# EAGLE library part XC2S50/100-TQFP144 (library xilinx)
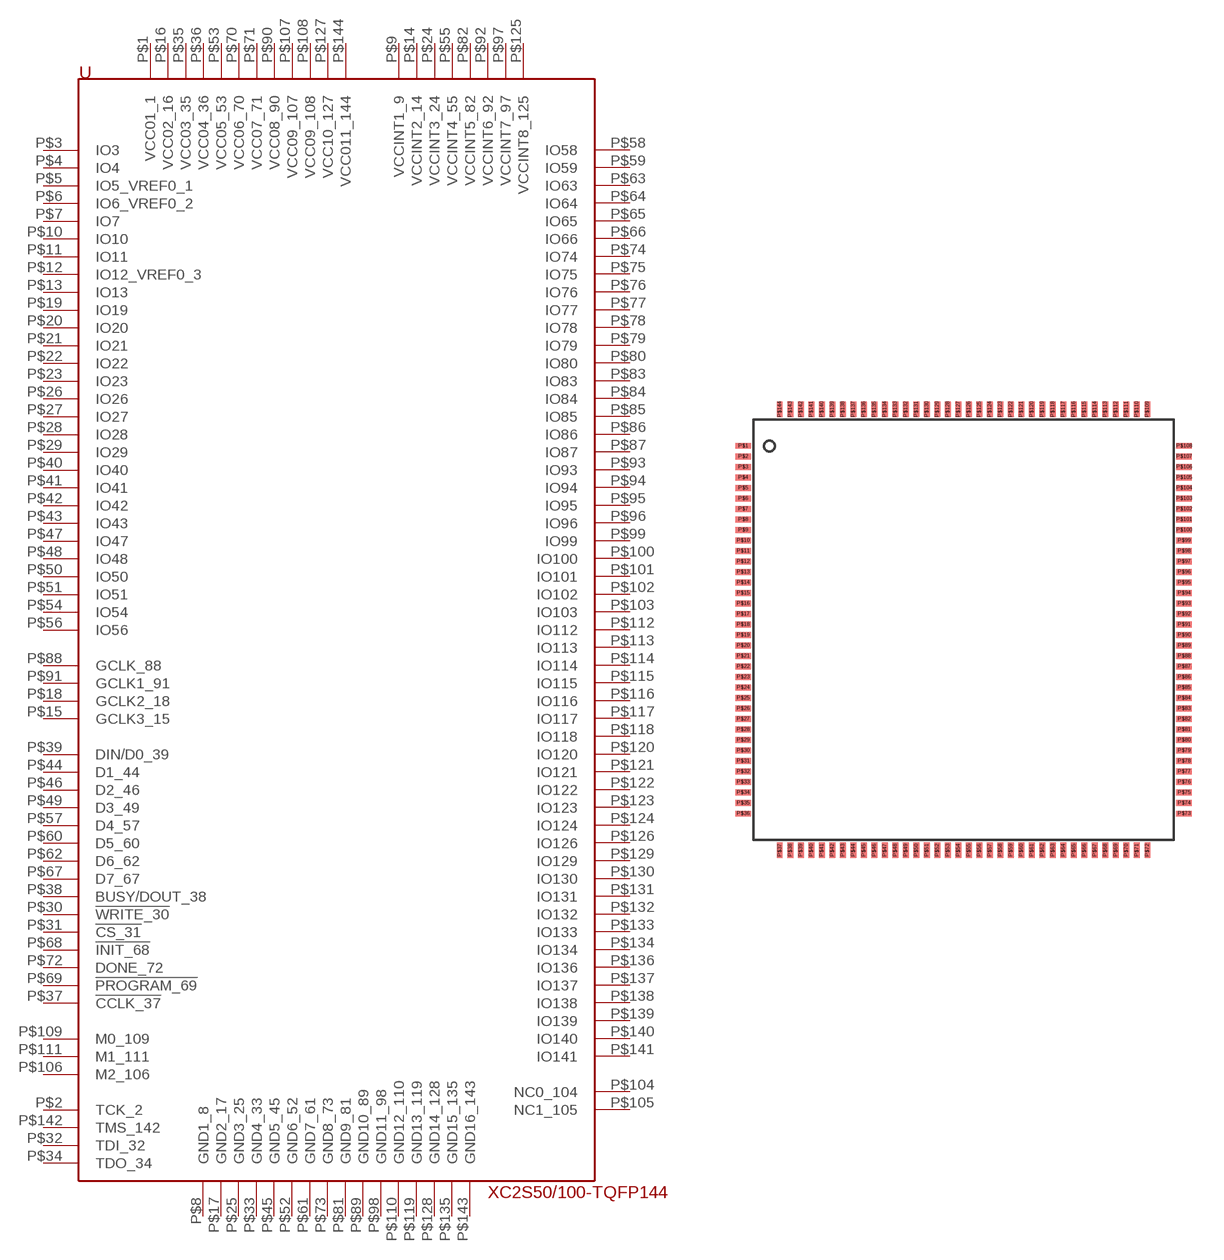
[diagram p0: symbol with the pads of TQFP144; footprint TQFP144]

Designator prefix -

## XC2S50/100-TQFP144  [TQFP144]
P$1  VCC01_1  pwr
P$2  TCK_2
P$3  IO3
P$4  IO4
P$5  IO5_VREF0_1
P$6  IO6_VREF0_2
P$7  IO7
P$8  GND1_8  pwr
P$9  VCCINT1_9  pwr
P$10  IO10
P$11  IO11
P$12  IO12_VREF0_3
P$13  IO13
P$14  VCCINT2_14  pwr
P$15  GCLK3_15
P$16  VCC02_16  pwr
P$17  GND2_17  pwr
P$18  GCLK2_18
P$19  IO19
P$20  IO20
P$21  IO21
P$22  IO22
P$23  IO23
P$24  VCCINT3_24  pwr
P$25  GND3_25  pwr
P$26  IO26
P$27  IO27
P$28  IO28
P$29  IO29
P$30  !WRITE_30
P$31  !CS_31
P$32  TDI_32
P$33  GND4_33  pwr
P$34  TDO_34
P$35  VCC03_35  pwr
P$36  VCC04_36  pwr
P$37  !CCLK_37
P$38  BUSY/DOUT_38
P$39  DIN/D0_39
P$40  IO40
P$41  IO41
P$42  IO42
P$43  IO43
P$44  D1_44
P$45  GND5_45  pwr
P$46  D2_46
P$47  IO47
P$48  IO48
P$49  D3_49
P$50  IO50
P$51  IO51
P$52  GND6_52  pwr
P$53  VCC05_53  pwr
P$54  IO54
P$55  VCCINT4_55  pwr
P$56  IO56
P$57  D4_57
P$58  IO58
P$59  IO59
P$60  D5_60
P$61  GND7_61  pwr
P$62  D6_62
P$63  IO63
P$64  IO64
P$65  IO65
P$66  IO66
P$67  D7_67
P$68  !INIT_68
P$69  !PROGRAM_69
P$70  VCC06_70  pwr
P$71  VCC07_71  pwr
P$72  DONE_72
P$73  GND8_73  pwr
P$74  IO74
P$75  IO75
P$76  IO76
P$77  IO77
P$78  IO78
P$79  IO79
P$80  IO80
P$81  GND9_81  pwr
P$82  VCCINT5_82  pwr
P$83  IO83
P$84  IO84
P$85  IO85
P$86  IO86
P$87  IO87
P$88  GCLK_88
P$89  GND10_89  pwr
P$90  VCC08_90  pwr
P$91  GCLK1_91
P$92  VCCINT6_92  pwr
P$93  IO93
P$94  IO94
P$95  IO95
P$96  IO96
P$97  VCCINT7_97  pwr
P$98  GND11_98  pwr
P$99  IO99
P$100  IO100
P$101  IO101
P$102  IO102
P$103  IO103
P$104  NC0_104
P$105  NC1_105
P$106  M2_106
P$107  VCC09_107  pwr
P$108  VCC09_108  pwr
P$109  M0_109
P$110  GND12_110  pwr
P$111  M1_111
P$112  IO112
P$113  IO113
P$114  IO114
P$115  IO115
P$116  IO116
P$117  IO117
P$118  IO118
P$119  GND13_119  pwr
P$120  IO120
P$121  IO121
P$122  IO122
P$123  IO123
P$124  IO124
P$125  VCCINT8_125  pwr
P$126  IO126
P$127  VCC10_127  pwr
P$128  GND14_128  pwr
P$129  IO129
P$130  IO130
P$131  IO131
P$132  IO132
P$133  IO133
P$134  IO134
P$135  GND15_135  pwr
P$136  IO136
P$137  IO137
P$138  IO138
P$139  IO139
P$140  IO140
P$141  IO141
P$142  TMS_142
P$143  GND16_143  pwr
P$144  VCC011_144  pwr

## Footprint TQFP144 (pad centres in mm)
smd 0.75 x 0.27: P$1 -10.5,8.75; P$2 -10.5,8.25; P$3 -10.5,7.75; P$4 -10.5,7.25; P$5 -10.5,6.75; P$6 -10.5,6.25; P$7 -10.5,5.75; P$8 -10.5,5.25; P$9 -10.5,4.75; P$10 -10.5,4.25; P$11 -10.5,3.75; P$12 -10.5,3.25; P$13 -10.5,2.75; P$14 -10.5,2.25; P$15 -10.5,1.75; P$16 -10.5,1.25; P$17 -10.5,0.75; P$18 -10.5,0.25; P$19 -10.5,-0.25; P$20 -10.5,-0.75; P$21 -10.5,-1.25; P$22 -10.5,-1.75; P$23 -10.5,-2.25; P$24 -10.5,-2.75; P$25 -10.5,-3.25; P$26 -10.5,-3.75; P$27 -10.5,-4.25; P$28 -10.5,-4.75; P$29 -10.5,-5.25; P$30 -10.5,-5.75; P$31 -10.5,-6.25; P$32 -10.5,-6.75; P$33 -10.5,-7.25; P$34 -10.5,-7.75; P$35 -10.5,-8.25; P$36 -10.5,-8.75; P$73 10.5,-8.75; P$74 10.5,-8.25; P$75 10.5,-7.75; P$76 10.5,-7.25; P$77 10.5,-6.75; P$78 10.5,-6.25; P$79 10.5,-5.75; P$80 10.5,-5.25; P$81 10.5,-4.75; P$82 10.5,-4.25; P$83 10.5,-3.75; P$84 10.5,-3.25; P$85 10.5,-2.75; P$86 10.5,-2.25; P$87 10.5,-1.75; P$88 10.5,-1.25; P$89 10.5,-0.75; P$90 10.5,-0.25; P$91 10.5,0.25; P$92 10.5,0.75; P$93 10.5,1.25; P$94 10.5,1.75; P$95 10.5,2.25; P$96 10.5,2.75; P$97 10.5,3.25; P$98 10.5,3.75; P$99 10.5,4.25; P$100 10.5,4.75; P$101 10.5,5.25; P$102 10.5,5.75; P$103 10.5,6.25; P$104 10.5,6.75; P$105 10.5,7.25; P$106 10.5,7.75; P$107 10.5,8.25; P$108 10.5,8.75
smd 0.27 x 0.75: P$37 -8.75,-10.5; P$38 -8.25,-10.5; P$39 -7.75,-10.5; P$40 -7.25,-10.5; P$41 -6.75,-10.5; P$42 -6.25,-10.5; P$43 -5.75,-10.5; P$44 -5.25,-10.5; P$45 -4.75,-10.5; P$46 -4.25,-10.5; P$47 -3.75,-10.5; P$48 -3.25,-10.5; P$49 -2.75,-10.5; P$50 -2.25,-10.5; P$51 -1.75,-10.5; P$52 -1.25,-10.5; P$53 -0.75,-10.5; P$54 -0.25,-10.5; P$55 0.25,-10.5; P$56 0.75,-10.5; P$57 1.25,-10.5; P$58 1.75,-10.5; P$59 2.25,-10.5; P$60 2.75,-10.5; P$61 3.25,-10.5; P$62 3.75,-10.5; P$63 4.25,-10.5; P$64 4.75,-10.5; P$65 5.25,-10.5; P$66 5.75,-10.5; P$67 6.25,-10.5; P$68 6.75,-10.5; P$69 7.25,-10.5; P$70 7.75,-10.5; P$71 8.25,-10.5; P$72 8.75,-10.5; P$109 8.75,10.5; P$110 8.25,10.5; P$111 7.75,10.5; P$112 7.25,10.5; P$113 6.75,10.5; P$114 6.25,10.5; P$115 5.75,10.5; P$116 5.25,10.5; P$117 4.75,10.5; P$118 4.25,10.5; P$119 3.75,10.5; P$120 3.25,10.5; P$121 2.75,10.5; P$122 2.25,10.5; P$123 1.75,10.5; P$124 1.25,10.5; P$125 0.75,10.5; P$126 0.25,10.5; P$127 -0.25,10.5; P$128 -0.75,10.5; P$129 -1.25,10.5; P$130 -1.75,10.5; P$131 -2.25,10.5; P$132 -2.75,10.5; P$133 -3.25,10.5; P$134 -3.75,10.5; P$135 -4.25,10.5; P$136 -4.75,10.5; P$137 -5.25,10.5; P$138 -5.75,10.5; P$139 -6.25,10.5; P$140 -6.75,10.5; P$141 -7.25,10.5; P$142 -7.75,10.5; P$143 -8.25,10.5; P$144 -8.75,10.5